# EAGLE library part DIRECTFET_L8_MOD (library sc_usercreated)
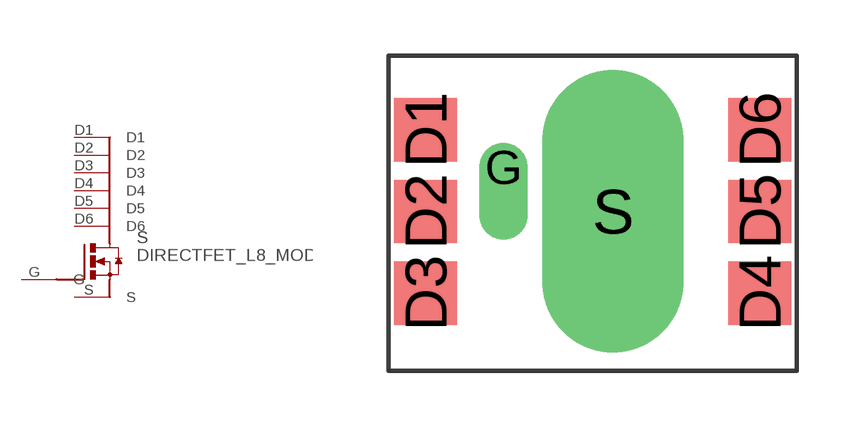
[diagram p15: symbol with the pads of DIRECTFET_L8_MOD; footprint DIRECTFET_L8_MOD]

Designator prefix S

## DIRECTFET_L8_MOD  [DIRECTFET_L8_MOD]
D1  D1
D2  D2
D3  D3
D4  D4
D5  D5
D6  D6
G  G
S  S

## Footprint DIRECTFET_L8_MOD (pad centres in mm)
smd 1.7 x 1.7: D1 0,0; D2 0,-2.2; D3 0,-4.4; D4 9,-4.4; D5 9,-2.2; D6 9,0
drill 0.8 offset: G 2.1,-1
drill 2 pad 3.81 long: S 5.05,-2.2